# EAGLE library part FE05-2 (library _pinsocket)
FEMALE HEADER
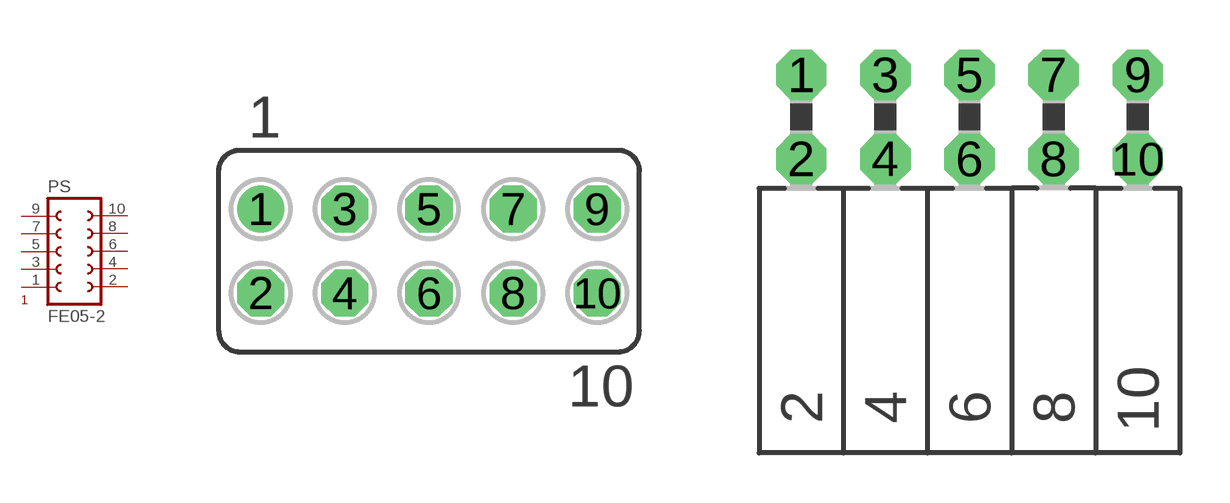
[diagram p0: symbol with the pads of 2X5-I; footprints 2X5-I, 2X5-L]

Designator prefix PS

## FE05-2I (OC_FARNELL: unknown; OC_NEWARK: unknown)  [2X5-I]
1  1  pas
2  2  pas
3  3  pas
4  4  pas
5  5  pas
6  6  pas
7  7  pas
8  8  pas
9  9  pas
10  10  pas

## FE05-2L  [2X5-L]
Pads as for 2X5-I

## Footprint 2X5-I (pad centres in mm)
FEMALE HEADER
drill 0.914: 1 -5.08,1.27
drill 0.914 octagon: 2 -5.08,-1.27; 3 -2.54,1.27; 4 -2.54,-1.27; 5 0,1.27; 6 0,-1.27; 7 2.54,1.27; 8 2.54,-1.27; 9 5.08,1.27; 10 5.08,-1.27

## Footprint 2X5-L (pad centres in mm)
FEMALE HEADER
drill 1.016 octagon: 1 -5.08,1.27; 2 -5.08,-1.27; 3 -2.54,1.27; 4 -2.54,-1.27; 5 0,1.27; 6 0,-1.27; 7 2.54,1.27; 8 2.54,-1.27; 9 5.08,1.27; 10 5.08,-1.27